# EAGLE library part PN87520-SPAC (library ModernDevice.l#1)
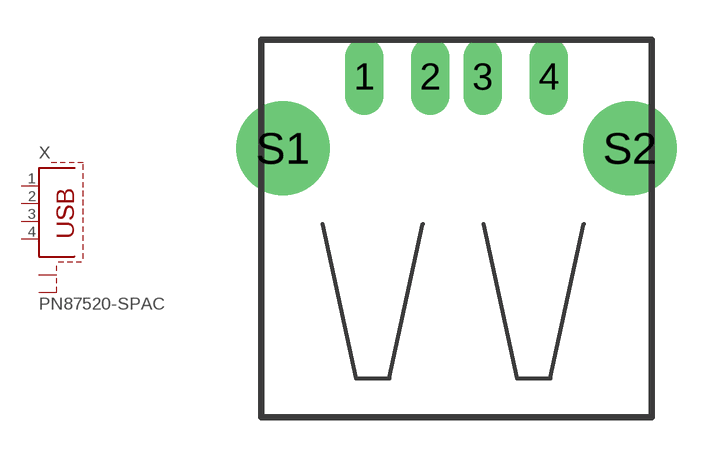
[diagram p36: symbol with the pads of PN87520-S; footprint PN87520-S]

Designator prefix X

## PN87520-SPAC (OC_FARNELL: unknown; OC_NEWARK: unknown)  [PN87520-S]
1  1  pas
2  2  pas
3  3  pas
4  4  pas
S1  S1  pas
S2  S2  pas

## Footprint PN87520-S (pad centres in mm)
USB connector with shield
drill 0.95 long: 1 -3.5,2.71; 2 -1,2.71; 3 1,2.71; 4 3.5,2.71
drill 2.3 pad 3.556: S1 -6.57,0; S2 6.57,0